# EAGLE library part CARDEDGE_3.96MMPITCH_60PIN (library 07-Retrocomputing)
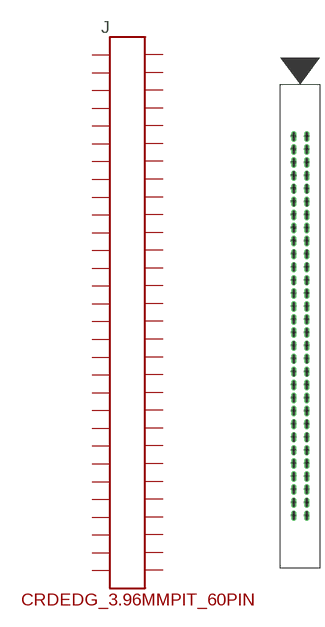
[diagram p37: symbol with the pads of VINTAGE_CARDEDGE_SLOT_3.96MMPITCH_60PIN; footprint VINTAGE_CARDEDGE_SLOT_3.96MMPITCH_60PIN]

Designator prefix J

## CARDEDGE_3.96MMPITCH_60PIN  [VINTAGE_CARDEDGE_SLOT_3.96MMPITCH_60PIN]
P$1  P$1
P$2  P$2
P$3  P$3
P$4  P$4
P$5  P$5
P$6  P$6
P$7  P$7
P$8  P$8
P$9  P$9
P$10  P$10
P$11  P$11
P$12  P$12
P$13  P$13
P$14  P$14
P$15  P$15
P$16  P$16
P$17  P$17
P$18  P$18
P$19  P$19
P$20  P$20
P$21  P$21
P$22  P$22
P$23  P$23
P$24  P$24
P$25  P$25
P$26  P$26
P$27  P$27
P$28  P$28
P$29  P$29
P$30  P$30
P$31  P$31
P$32  P$32
P$33  P$33
P$34  P$34
P$35  P$35
P$36  P$36
P$37  P$37
P$38  P$38
P$39  P$39
P$40  P$40
P$41  P$41
P$42  P$42
P$43  P$43
P$44  P$44
P$45  P$45
P$46  P$46
P$47  P$47
P$48  P$48
P$49  P$49
P$50  P$50
P$51  P$51
P$52  P$52
P$53  P$53
P$54  P$54
P$55  P$55
P$56  P$56
P$57  P$57
P$58  P$58
P$59  P$59
P$60  P$60

## Footprint VINTAGE_CARDEDGE_SLOT_3.96MMPITCH_60PIN (pad centres in mm)
drill 0.6 pad 1.6 long: P$1 -1.98,57.42; P$2 -1.98,53.46; P$3 -1.98,49.5; P$4 -1.98,45.54; P$5 -1.98,41.58; P$6 -1.98,37.62; P$7 -1.98,33.66; P$8 -1.98,29.7; P$9 -1.98,25.74; P$10 -1.98,21.78; P$11 -1.98,17.82; P$12 -1.98,13.86; P$13 -1.98,9.9; P$14 -1.98,5.94; P$15 -1.98,1.98; P$16 -1.98,-1.98; P$17 -1.98,-5.94; P$18 -1.98,-9.9; P$19 -1.98,-13.86; P$20 -1.98,-17.82; P$21 -1.98,-21.78; P$22 -1.98,-25.74; P$23 -1.98,-29.7; P$24 -1.98,-33.66; P$25 -1.98,-37.62; P$26 -1.98,-41.58; P$27 -1.98,-45.54; P$28 -1.98,-49.5; P$29 -1.98,-53.46; P$30 -1.98,-57.42; P$31 1.98,-57.42; P$32 1.98,-53.46; P$33 1.98,-49.5; P$34 1.98,-45.54; P$35 1.98,-41.58; P$36 1.98,-37.62; P$37 1.98,-33.66; P$38 1.98,-29.7; P$39 1.98,-25.74; P$40 1.98,-21.78; P$41 1.98,-17.82; P$42 1.98,-13.86; P$43 1.98,-9.9; P$44 1.98,-5.94; P$45 1.98,-1.98; P$46 1.98,1.98; P$47 1.98,5.94; P$48 1.98,9.9; P$49 1.98,13.86; P$50 1.98,17.82; P$51 1.98,21.78; P$52 1.98,25.74; P$53 1.98,29.7; P$54 1.98,33.66; P$55 1.98,37.62; P$56 1.98,41.58; P$57 1.98,45.54; P$58 1.98,49.5; P$59 1.98,53.46; P$60 1.98,57.42